# Altium footprint library MAALsLAB_Resistor_SMD.PcbLib: 32 footprints (part 2 of 2)
Each footprint in its own frame and in the unit in brackets; x right, y up, seen from the top. Pads: shape width x height; smd on the part's side, far side on the other; paste and mask are expansions set on the pad; w line width, h text height; cw(c..) or ccw(c..) is an arc to the next point about the centre after c.
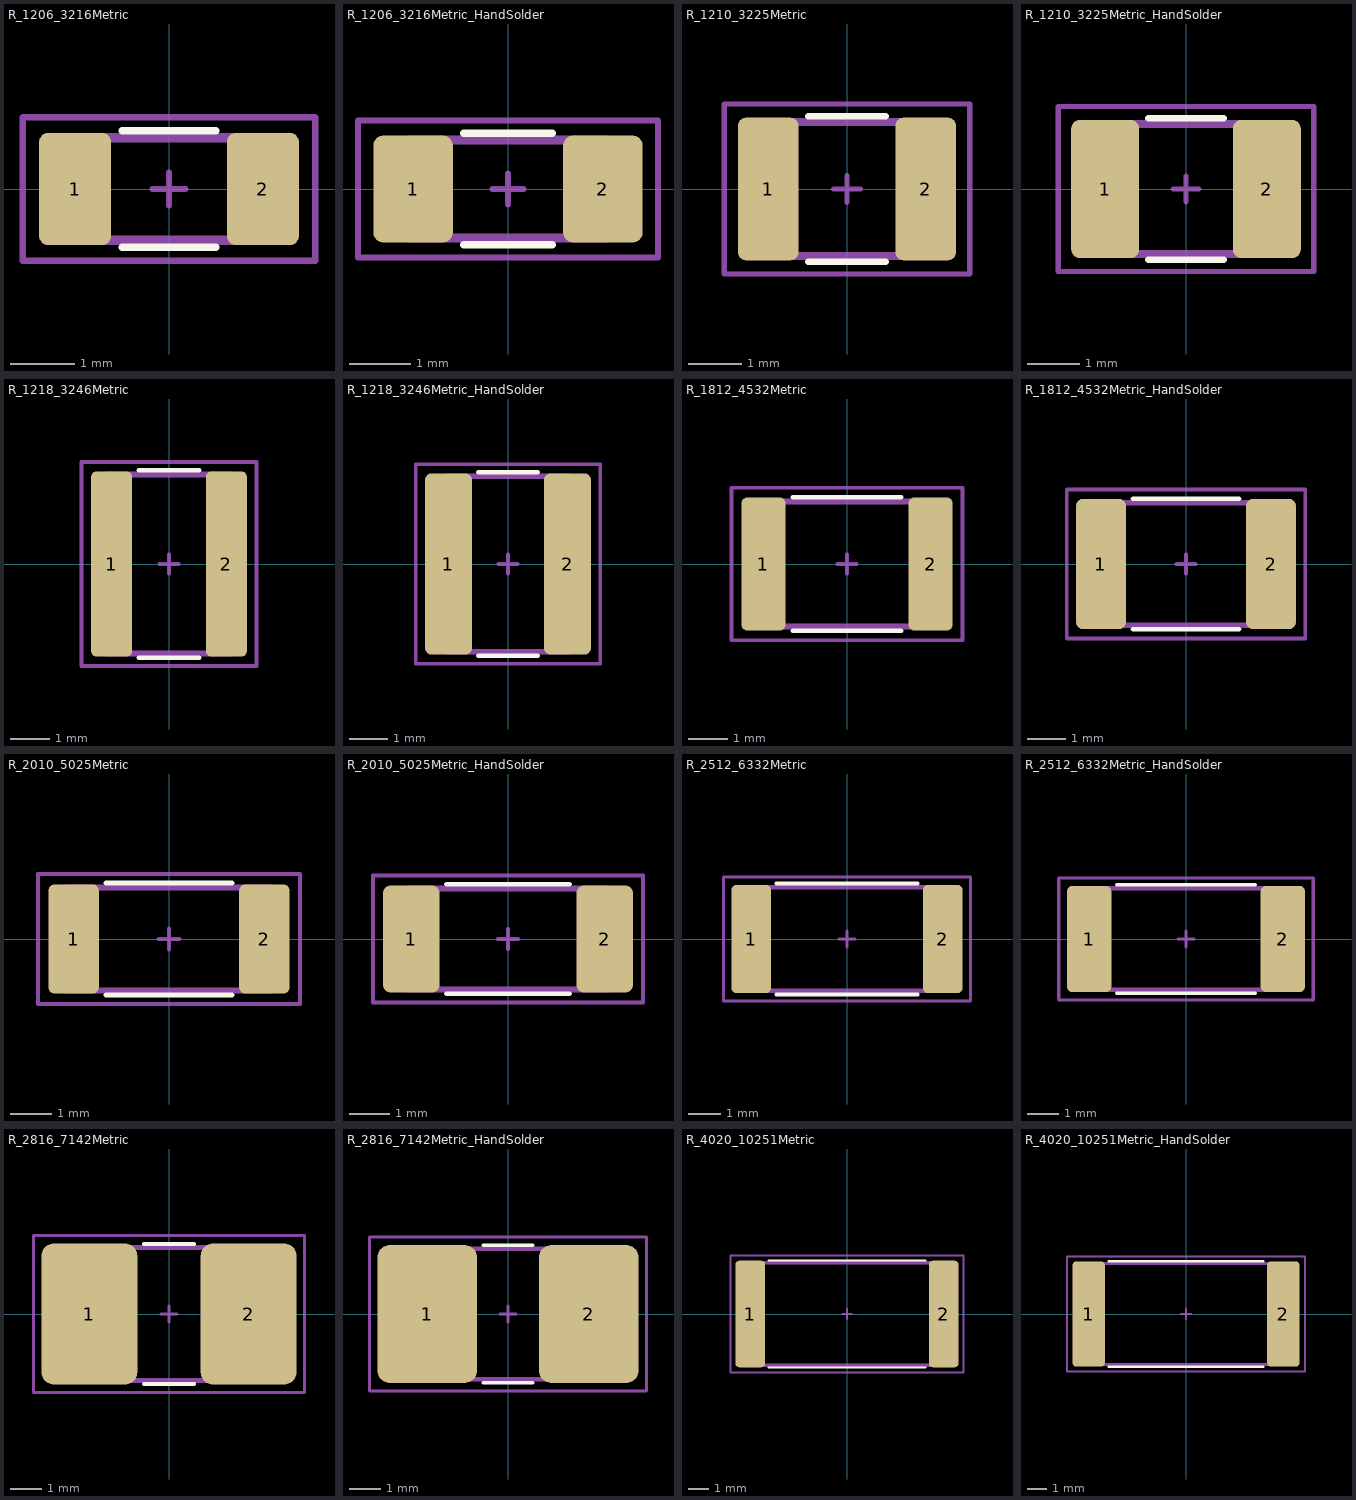
[diagram p1: the footprints below, top view; thin cyan lines are the x and y axes]

## R_1206_3216Metric [mm] "Resistor SMD 1206 (3216 Metric)"
pads (2):
  rrect25% 1.125x1.75 smd: 1(-1.462,0) 2(1.462,0)
Top Overlay:
  lines w0.12: -0.727,-0.91 0.727,-0.91 ; -0.727,0.91 0.727,0.91
Top Courtyard:
  lines w0.05: -0.1,0 0.1,0 ; 0,-0.1 0,0.1 ; -2.28,-1.12 2.28,-1.12 2.28,1.12 -2.28,1.12 -2.28,-1.12
Top Component Center:
  lines w0.1: -0.25,0 0.25,0 ; 0,-0.25 0,0.25
Top Component Outline:
  lines w0.1: -2.28,-1.12 2.28,-1.12 2.28,1.12 -2.28,1.12 -2.28,-1.12
Top Assembly:
  lines w0.15: -1.6,-0.8 1.6,-0.8 1.6,0.8 -1.6,0.8 -1.6,-0.8
Top Designator:
  text ".Designator" at -7.618,-0.508 h1.52
3D body "R_1206_3216Metric.step": height 0.56, standoff 0.01, extent -1.6,-0.8 1.6,0.8

## R_1206_3216Metric_HandSolder [mm] "Resistor SMD 1206 (3216 Metric) for handsoldering."
pads (2):
  rrect25% 1.3x1.75 smd: 1(-1.55,0) 2(1.55,0)
Top Overlay:
  lines w0.12: -0.727,-0.91 0.727,-0.91 ; -0.727,0.91 0.727,0.91
Top Courtyard:
  lines w0.05: -0.1,0 0.1,0 ; 0,-0.1 0,0.1 ; -2.45,-1.12 -2.45,1.12 2.45,1.12 2.45,-1.12 -2.45,-1.12
Top Component Center:
  lines w0.1: -0.25,0 0.25,0 ; 0,-0.25 0,0.25
Top Component Outline:
  lines w0.1: -2.45,-1.12 -2.45,1.12 2.45,1.12 2.45,-1.12 -2.45,-1.12
Top Assembly:
  lines w0.15: -1.6,-0.8 -1.6,0.8 1.6,0.8 1.6,-0.8 -1.6,-0.8
Top Designator:
  text ".Designator" at -7.618,-0.508 h1.52
3D body "R_1206_3216Metric.step": height 0.56, standoff 0.01, extent -1.6,-0.8 1.6,0.8

## R_1210_3225Metric [mm] "Resistor SMD 1210 (3225 Metric)"
pads (2):
  rrect25% 1.125x2.65 smd: 1(-1.462,0) 2(1.462,0)
Top Overlay:
  lines w0.12: -0.724,-1.355 0.724,-1.355 ; -0.724,1.355 0.724,1.355
Top Courtyard:
  lines w0.05: -0.1,0 0.1,0 ; 0,-0.1 0,0.1 ; -2.28,-1.58 2.28,-1.58 2.28,1.58 -2.28,1.58 -2.28,-1.58
Top Component Center:
  lines w0.1: -0.25,0 0.25,0 ; 0,-0.25 0,0.25
Top Component Outline:
  lines w0.1: -2.28,-1.58 2.28,-1.58 2.28,1.58 -2.28,1.58 -2.28,-1.58
Top Assembly:
  lines w0.15: -1.6,-1.245 -1.6,1.245 1.6,1.245 1.6,-1.245 -1.6,-1.245
Top Designator:
  text ".Designator" at -7.618,-0.508 h1.52
3D body "R_1210_3225Metric.step": height 0.56, standoff 0.01, extent -1.6,-1.25 1.6,1.25

## R_1210_3225Metric_HandSolder [mm] "Resistor SMD 1210 (3225 Metric) for handsoldering."
pads (2):
  rrect25% 1.3x2.65 smd: 1(-1.55,0) 2(1.55,0)
Top Overlay:
  lines w0.12: -0.724,-1.355 0.724,-1.355 ; -0.724,1.355 0.724,1.355
Top Courtyard:
  lines w0.05: -0.1,0 0.1,0 ; 0,-0.1 0,0.1 ; -2.45,-1.58 -2.45,1.58 2.45,1.58 2.45,-1.58 -2.45,-1.58
Top Component Center:
  lines w0.1: -0.25,0 0.25,0 ; 0,-0.25 0,0.25
Top Component Outline:
  lines w0.1: -2.45,-1.58 -2.45,1.58 2.45,1.58 2.45,-1.58 -2.45,-1.58
Top Assembly:
  lines w0.15: -1.6,-1.245 1.6,-1.245 1.6,1.245 -1.6,1.245 -1.6,-1.245
Top Designator:
  text ".Designator" at -7.618,-0.508 h1.52
3D body "R_1210_3225Metric.step": height 0.56, standoff 0.01, extent -1.6,-1.25 1.6,1.25

## R_1218_3246Metric [mm] "Resistor SMD 1218 (3246 Metric)"
pads (2):
  rrect25% 1.05x4.75 smd: 1(-1.475,0) 2(1.475,0)
Top Overlay:
  lines w0.12: -0.777,-2.41 0.777,-2.41 ; -0.777,2.41 0.777,2.41
Top Courtyard:
  lines w0.05: -0.1,0 0.1,0 ; 0,-0.1 0,0.1 ; -2.25,-2.62 -2.25,2.62 2.25,2.62 2.25,-2.62 -2.25,-2.62
Top Component Center:
  lines w0.1: -0.25,0 0.25,0 ; 0,-0.25 0,0.25
Top Component Outline:
  lines w0.1: -2.25,-2.62 -2.25,2.62 2.25,2.62 2.25,-2.62 -2.25,-2.62
Top Assembly:
  lines w0.15: -1.6,-2.3 -1.6,2.3 1.6,2.3 1.6,-2.3 -1.6,-2.3
Top Designator:
  text ".Designator" at -7.618,-0.508 h1.52
3D body "R_1218_3246Metric.step": height 0.56, standoff 0.01, extent -1.6,-2.3 1.6,2.3

## R_1218_3246Metric_HandSolder [mm] "Resistor SMD 1218 (3246 Metric) for handsoldering."
pads (2):
  rrect25% 1.225x4.75 smd: 1(-1.562,0) 2(1.562,0)
Top Overlay:
  lines w0.12: -0.777,-2.41 0.777,-2.41 ; -0.777,2.41 0.777,2.41
Top Courtyard:
  lines w0.05: -0.1,0 0.1,0 ; 0,-0.1 0,0.1 ; -2.42,-2.62 2.42,-2.62 2.42,2.62 -2.42,2.62 -2.42,-2.62
Top Component Center:
  lines w0.1: -0.25,0 0.25,0 ; 0,-0.25 0,0.25
Top Component Outline:
  lines w0.1: -2.42,-2.62 2.42,-2.62 2.42,2.62 -2.42,2.62 -2.42,-2.62
Top Assembly:
  lines w0.15: -1.6,-2.3 -1.6,2.3 1.6,2.3 1.6,-2.3 -1.6,-2.3
Top Designator:
  text ".Designator" at -7.618,-0.508 h1.52
3D body "R_1218_3246Metric.step": height 0.56, standoff 0.01, extent -1.6,-2.3 1.6,2.3

## R_1812_4532Metric [mm] "Resistor SMD 1812 (4532 Metric)"
pads (2):
  rrect25% 1.125x3.4 smd: 1(-2.137,0) 2(2.137,0)
Top Overlay:
  lines w0.12: -1.386,-1.71 1.386,-1.71 ; -1.386,1.71 1.386,1.71
Top Courtyard:
  lines w0.05: -0.1,0 0.1,0 ; 0,-0.1 0,0.1 ; -2.95,-1.95 2.95,-1.95 2.95,1.95 -2.95,1.95 -2.95,-1.95
Top Component Center:
  lines w0.1: -0.25,0 0.25,0 ; 0,-0.25 0,0.25
Top Component Outline:
  lines w0.1: -2.95,-1.95 2.95,-1.95 2.95,1.95 -2.95,1.95 -2.95,-1.95
Top Assembly:
  lines w0.15: -2.25,-1.6 -2.25,1.6 2.25,1.6 2.25,-1.6 -2.25,-1.6
Top Designator:
  text ".Designator" at -7.618,-0.508 h1.52
3D body "R_1812_4532Metric.step": height 0.61, standoff 0.01, extent -2.25,-1.6 2.25,1.6

## R_1812_4532Metric_HandSolder [mm] "Resistor SMD 1812 (4532 Metric) for handsoldering."
pads (2):
  rrect25% 1.3x3.4 smd: 1(-2.225,0) 2(2.225,0)
Top Overlay:
  lines w0.12: -1.386,-1.71 1.386,-1.71 ; -1.386,1.71 1.386,1.71
Top Courtyard:
  lines w0.05: -0.1,0 0.1,0 ; 0,-0.1 0,0.1 ; -3.12,-1.95 -3.12,1.95 3.12,1.95 3.12,-1.95 -3.12,-1.95
Top Component Center:
  lines w0.1: -0.25,0 0.25,0 ; 0,-0.25 0,0.25
Top Component Outline:
  lines w0.1: -3.12,-1.95 -3.12,1.95 3.12,1.95 3.12,-1.95 -3.12,-1.95
Top Assembly:
  lines w0.15: -2.25,-1.6 -2.25,1.6 2.25,1.6 2.25,-1.6 -2.25,-1.6
Top Designator:
  text ".Designator" at -7.618,-0.508 h1.52
3D body "R_1812_4532Metric.step": height 0.61, standoff 0.01, extent -2.25,-1.6 2.25,1.6

## R_2010_5025Metric [mm] "Resistor SMD 2010 (5025 Metric)"
pads (2):
  rrect25% 1.225x2.65 smd: 1(-2.312,0) 2(2.312,0)
Top Overlay:
  lines w0.12: -1.527,-1.36 1.527,-1.36 ; -1.527,1.36 1.527,1.36
Top Courtyard:
  lines w0.05: -0.1,0 0.1,0 ; 0,-0.1 0,0.1 ; -3.18,-1.58 3.18,-1.58 3.18,1.58 -3.18,1.58 -3.18,-1.58
Top Component Center:
  lines w0.1: -0.25,0 0.25,0 ; 0,-0.25 0,0.25
Top Component Outline:
  lines w0.1: -3.18,-1.58 3.18,-1.58 3.18,1.58 -3.18,1.58 -3.18,-1.58
Top Assembly:
  lines w0.15: -2.5,-1.25 2.5,-1.25 2.5,1.25 -2.5,1.25 -2.5,-1.25
Top Designator:
  text ".Designator" at -7.618,-0.508 h1.52
3D body "R_2010_5025Metric.step": height 0.61, standoff 0.01, extent -2.5,-1.25 2.5,1.25

## R_2010_5025Metric_HandSolder [mm] "Resistor SMD 2010 (5025 Metric) for handsoldering."
pads (2):
  rrect25% 1.4x2.65 smd: 1(-2.4,0) 2(2.4,0)
Top Overlay:
  lines w0.12: -1.527,-1.36 1.527,-1.36 ; -1.527,1.36 1.527,1.36
Top Courtyard:
  lines w0.05: -0.1,0 0.1,0 ; 0,-0.1 0,0.1 ; -3.35,-1.58 3.35,-1.58 3.35,1.58 -3.35,1.58 -3.35,-1.58
Top Component Center:
  lines w0.1: -0.25,0 0.25,0 ; 0,-0.25 0,0.25
Top Component Outline:
  lines w0.1: -3.35,-1.58 3.35,-1.58 3.35,1.58 -3.35,1.58 -3.35,-1.58
Top Assembly:
  lines w0.15: -2.5,-1.25 2.5,-1.25 2.5,1.25 -2.5,1.25 -2.5,-1.25
Top Designator:
  text ".Designator" at -7.618,-0.508 h1.52
3D body "R_2010_5025Metric.step": height 0.61, standoff 0.01, extent -2.5,-1.25 2.5,1.25

## R_2512_6332Metric [mm] "Resistor SMD 2512 (6332 Metric)"
pads (2):
  rrect25% 1.225x3.35 smd: 1(-2.963,0) 2(2.963,0)
Top Overlay:
  lines w0.12: -2.177,-1.71 2.177,-1.71 ; -2.177,1.71 2.177,1.71
Top Courtyard:
  lines w0.05: -0.1,0 0.1,0 ; 0,-0.1 0,0.1 ; -3.82,-1.92 3.82,-1.92 3.82,1.92 -3.82,1.92 -3.82,-1.92
Top Component Center:
  lines w0.1: -0.25,0 0.25,0 ; 0,-0.25 0,0.25
Top Component Outline:
  lines w0.1: -3.82,-1.92 3.82,-1.92 3.82,1.92 -3.82,1.92 -3.82,-1.92
Top Assembly:
  lines w0.15: -3.15,-1.6 3.15,-1.6 3.15,1.6 -3.15,1.6 -3.15,-1.6
Top Designator:
  text ".Designator" at -7.618,-0.508 h1.52
3D body "R_2512_6332Metric.step": height 0.61, standoff 0.01, extent -3.15,-1.6 3.15,1.6

## R_2512_6332Metric_HandSolder [mm] "Resistor SMD 2512 (6332 Metric) for handsoldering."
pads (2):
  rrect25% 1.4x3.35 smd: 1(-3.05,0) 2(3.05,0)
Top Overlay:
  lines w0.12: -2.177,-1.71 2.177,-1.71 ; -2.177,1.71 2.177,1.71
Top Courtyard:
  lines w0.05: -0.1,0 0.1,0 ; 0,-0.1 0,0.1 ; -4.011,-1.917 4.011,-1.917 4.011,1.917 -4.011,1.917 -4.011,-1.917
Top Component Center:
  lines w0.1: -0.25,0 0.25,0 ; 0,-0.25 0,0.25
Top Component Outline:
  lines w0.1: -4.011,-1.917 4.011,-1.917 4.011,1.917 -4.011,1.917 -4.011,-1.917
Top Assembly:
  lines w0.15: -3.15,-1.6 3.15,-1.6 3.15,1.6 -3.15,1.6 -3.15,-1.6
Top Designator:
  text ".Designator" at -7.618,-0.508 h1.52
3D body "R_2512_6332Metric.step": height 0.61, standoff 0.01, extent -3.15,-1.6 3.15,1.6

## R_2816_7142Metric [mm] "Resistor SMD 2816 (7142 Metric)"
pads (2):
  rrect25% 3.025x4.45 smd: 1(-2.512,0) 2(2.512,0)
Top Overlay:
  lines w0.12: -0.797,-2.21 0.797,-2.21 ; -0.797,2.21 0.797,2.21
Top Courtyard:
  lines w0.05: -0.1,0 0.1,0 ; 0,-0.1 0,0.1 ; -4.28,-2.48 -4.28,2.48 4.28,2.48 4.28,-2.48 -4.28,-2.48
Top Component Center:
  lines w0.1: -0.25,0 0.25,0 ; 0,-0.25 0,0.25
Top Component Outline:
  lines w0.1: -4.28,-2.48 -4.28,2.48 4.28,2.48 4.28,-2.48 -4.28,-2.48
Top Assembly:
  lines w0.15: -3.55,-2.1 -3.55,2.1 3.55,2.1 3.55,-2.1 -3.55,-2.1
Top Designator:
  text ".Designator" at -7.618,-0.508 h1.52
3D body "R_2816_7142Metric.step": height 0.61, standoff 0.01, extent -3.55,-2.1 3.55,2.1

## R_2816_7142Metric_HandSolder [mm] "Resistor SMD 2816 (7142 Metric) for handsoldering."
pads (2):
  rrect25% 3.2x4.45 smd: 1(-2.6,0) 2(2.6,0)
Top Overlay:
  lines w0.12: -0.797,-2.21 0.797,-2.21 ; -0.797,2.21 0.797,2.21
Top Courtyard:
  lines w0.05: -0.1,0 0.1,0 ; 0,-0.1 0,0.1 ; -4.45,-2.48 -4.45,2.48 4.45,2.48 4.45,-2.48 -4.45,-2.48
Top Component Center:
  lines w0.1: -0.25,0 0.25,0 ; 0,-0.25 0,0.25
Top Component Outline:
  lines w0.1: -4.45,-2.48 -4.45,2.48 4.45,2.48 4.45,-2.48 -4.45,-2.48
Top Assembly:
  lines w0.15: -3.55,-2.1 3.55,-2.1 3.55,2.1 -3.55,2.1 -3.55,-2.1
Top Designator:
  text ".Designator" at -7.618,-0.508 h1.52
3D body "R_2816_7142Metric.step": height 0.61, standoff 0.01, extent -3.55,-2.1 3.55,2.1

## R_4020_10251Metric [mm] "Resistor SMD 4020 (10251 Metric)"
pads (2):
  rrect25% 1.475x5.3 smd: 1(-4.812,0) 2(4.812,0)
Top Overlay:
  lines w0.12: -3.886,-2.66 3.886,-2.66 ; -3.886,2.66 3.886,2.66
Top Courtyard:
  lines w0.05: -0.1,0 0.1,0 ; 0,-0.1 0,0.1 ; -5.8,-2.9 -5.8,2.9 5.8,2.9 5.8,-2.9 -5.8,-2.9
Top Component Center:
  lines w0.1: -0.25,0 0.25,0 ; 0,-0.25 0,0.25
Top Component Outline:
  lines w0.1: -5.8,-2.9 -5.8,2.9 5.8,2.9 5.8,-2.9 -5.8,-2.9
Top Assembly:
  lines w0.15: -5.1,-2.55 5.1,-2.55 5.1,2.55 -5.1,2.55 -5.1,-2.55
Top Designator:
  text ".Designator" at -7.618,-0.508 h1.52
3D body "R_4020_10251Metric.step": height 0.61, standoff 0.01, extent -5.1,-2.55 5.1,2.55

## R_4020_10251Metric_HandSolder [mm] "Resistor SMD 4020 (10251 Metric) for handsoldering."
pads (2):
  rrect25% 1.65x5.3 smd: 1(-4.9,0) 2(4.9,0)
Top Overlay:
  lines w0.12: -3.886,-2.66 3.886,-2.66 ; -3.886,2.66 3.886,2.66
Top Courtyard:
  lines w0.05: -0.1,0 0.1,0 ; 0,-0.1 0,0.1 ; -5.98,-2.9 -5.98,2.9 5.98,2.9 5.98,-2.9 -5.98,-2.9
Top Component Center:
  lines w0.1: -0.25,0 0.25,0 ; 0,-0.25 0,0.25
Top Component Outline:
  lines w0.1: -5.98,-2.9 -5.98,2.9 5.98,2.9 5.98,-2.9 -5.98,-2.9
Top Assembly:
  lines w0.15: -5.1,-2.55 -5.1,2.55 5.1,2.55 5.1,-2.55 -5.1,-2.55
Top Designator:
  text ".Designator" at -7.618,-0.508 h1.52
3D body "R_4020_10251Metric.step": height 0.61, standoff 0.01, extent -5.1,-2.55 5.1,2.55